# EAGLE library part RX8010SJ (library SamacSys_Parts)
Real-time Clocks Clock/Calendar I2C 350nA @ 5V SOP-8 RoHS Source: Datasheet <https://4donline.ihs.com/images/VipMasterIC/IC/SEIK/SEIK-S-A0003084392/SEIK-S-A0003084392-1.pdf?hkey=EF798316E3902B6ED9A73243A3159BB0>
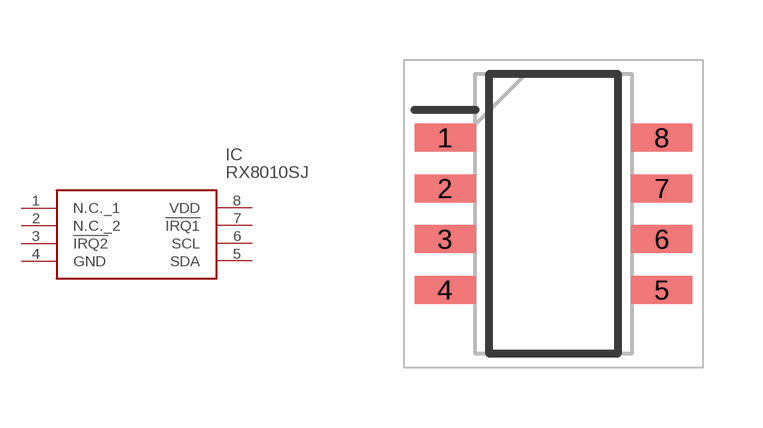
[diagram p125: symbol with the pads of SOIC127P600X265-8N; footprint SOIC127P600X265-8N]

Designator prefix IC

## RX8010SJ (DESCRIPTION: Real-time Clocks Clock/Calendar I2C 350nA @ 5V SOP-8 RoHS; HEIGHT: 2.65mm; MANUFACTURER_NAME: Seiko Instruments Inc.; MANUFACTURER_PART_NUMBER: RX8010SJ)  [SOIC127P600X265-8N]
1  N.C._1
2  N.C._2
3  !IRQ2
4  GND
5  SDA
6  SCL
7  !IRQ1
8  VDD

## Footprint SOIC127P600X265-8N (pad centres in mm)
SOP 8 pin
smd 1.525 x 0.7: 1 -2.712,1.905; 2 -2.712,0.635; 3 -2.712,-0.635; 4 -2.712,-1.905; 5 2.712,-1.905; 6 2.712,-0.635; 7 2.712,0.635; 8 2.712,1.905